# Altium schematic symbol library Capacitors$.SchLib: 601 symbols (part 4 of 4)
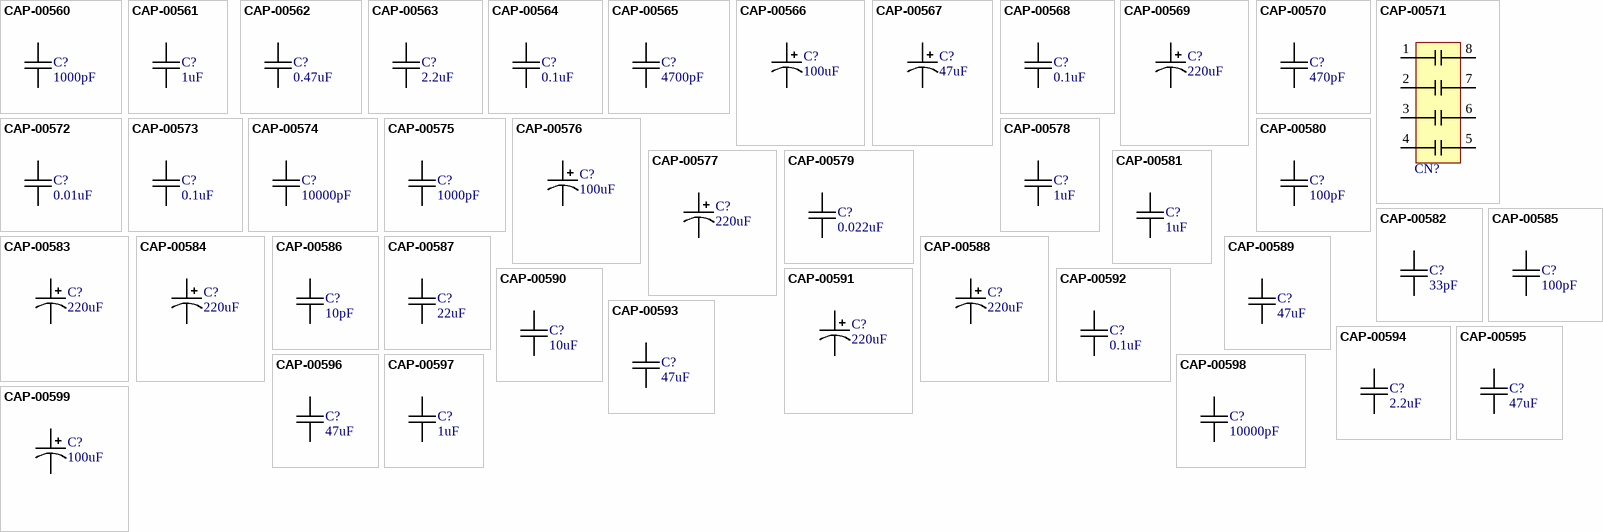
[diagram p18: symbols CAP-00560 to CAP-00599]

## CAP-00573
designator C?, comment 0.1uF
CAP, 0.1uF, ±10%, 50V, X7R, Thru-Hole 0.2in spacing; Part Number: CAP-00573; Manufacturer: KEMET; Manufacturer PN: C322C104K5R5TA7301; Capacitance: 0.1uF; Tolerance: ±10%; Voltage Rating: 50V; Type: X7R; Cost: $0.24
footprint KEMET_C322C104K5R5TA7301
pins: 1, 2

## CAP-00574
designator C?, comment 10000pF
CAP, 10000pF, ±10%, 100V, X7R, Thru-Hole 0.2in spacing; Part Number: CAP-00574; Manufacturer: KEMET; Manufacturer PN: C317C103K1R5TA7301; Capacitance: 10000pF; Tolerance: ±10%; Voltage Rating: 100V; Type: X7R; Cost: $0.24
footprint KEMET_C317C103K1R5TA7301
pins: 1, 2

## CAP-00575
designator C?, comment 1000pF
CAP, 1000pF, ±10%, 100V, X7R, Thru-Hole 0.2in spacing; Part Number: CAP-00575; Manufacturer: KEMET; Manufacturer PN: C317C102K1R5TA7301; Capacitance: 1000pF; Tolerance: ±10%; Voltage Rating: 100V; Type: X7R; Cost: $0.36
footprint KEMET_C317C103K1R5TA7301
pins: 1, 2

## CAP-00576
designator C?, comment 100uF
CAP, 100uF, ±20%, 160V, Al, Radial/Can; Part Number: CAP-00576; Manufacturer: Nichicon; Manufacturer PN: UCS2C101MHD6TN; Capacitance: 100uF; Tolerance: ±20%; Voltage Rating: 160V; Type: Al; Cost: $1.63
footprint CP_RADIAL_D16.0_P7.5_H21.5
pins: 1, 2

## CAP-00577
designator C?, comment 220uF
CAP, 220uF, ±20%, 100V, Al, Radial/Can; Part Number: CAP-00577; Manufacturer: Rubycon; Manufacturer PN: 100ZLJ220M12.5X25; Capacitance: 220uF; Tolerance: ±20%; Voltage Rating: 100V; Type: Al; Cost: $1.21
footprint CP_RADIAL_D12.5_P5.0_H27.0
pins: 1, 2

## CAP-00578
designator C?, comment 1uF
CAP, 1uF, ±10%, 50V, X7R, Thru-Hole 0.2in spacing; Part Number: CAP-00578; Manufacturer: KEMET; Manufacturer PN: C333C105K5R5TA; Capacitance: 1uF; Tolerance: ±10%; Voltage Rating: 50V; Type: X7R; Cost: $0.43
footprint KEMET_C333C105K5R5TA
pins: 1, 2

## CAP-00579
designator C?, comment 0.022uF
CAP, 0.022uF, ±10%, 100V, X7R, Thru-Hole 0.2in spacing; Part Number: CAP-00579; Manufacturer: KEMET; Manufacturer PN: C322C223K1R5TA; Capacitance: 0.022uF; Tolerance: ±10%; Voltage Rating: 100V; Type: X7R; Cost: $0.30
footprint KEMET_C322C104K5R5TA7301
pins: 1, 2

## CAP-00580
designator C?, comment 100pF
CAP, 100pF, ±20%, 200V, X7R, Thru-Hole 0.2in spacing; Part Number: CAP-00580; Manufacturer: KEMET; Manufacturer PN: C317C101M2R5TA; Capacitance: 100pF; Tolerance: ±20%; Voltage Rating: 200V; Type: X7R; Cost: $0.31
footprint KEMET_C317C103K1R5TA7301
pins: 1, 2

## CAP-00581
designator C?, comment 1uF
CAP, 1uF, ±10%, 100V, X7R, Thru-Hole 0.2in spacing; Part Number: CAP-00581; Manufacturer: KEMET; Manufacturer PN: C340C105K1R5TA7303; Capacitance: 1uF; Tolerance: ±10%; Voltage Rating: 100V; Type: X7R; Cost: $0.74
footprint KEMET_C340C105K1R5TA7303
pins: 1, 2

## CAP-00582
designator C?, comment 33pF
CAP, 33pF, ±10%, 200V, C0G, Thru-Hole 0.2in spacing; Part Number: CAP-00582; Manufacturer: KEMET; Manufacturer PN: C317C330K2G5TA7301; Capacitance: 33pF; Tolerance: ±10%; Voltage Rating: 200V; Type: C0G; Cost: $0.32
footprint KEMET_C317C330K2G5TA7301
pins: 1, 2

## CAP-00583
designator C?, comment 220uF
CAP, 220uF, ±10%, 16V, Tantalum, 2917; Part Number: CAP-00583; Manufacturer: KEMET; Manufacturer PN: T491D227K016AT; Capacitance: 220uF; Tolerance: ±10%; Voltage Rating: 16V; Type: Tantalum; Cost: $1.83
footprint CHIP_2917_KEMET_T491D
pins: 1, 2

## CAP-00584
designator C?, comment 220uF
CAP, 220uF, ±10%, 16V, Tantalum, 100mOhm, 2917; Part Number: CAP-00584; Manufacturer: KEMET; Manufacturer PN: T495X227K016ATE100; Capacitance: 220uF; Tolerance: ±10%; Voltage Rating: 16V; Type: Tantalum; Cost: $2.57
footprint chip_2917_KEMET_T495
pins: 1, 2

## CAP-00585
designator C?, comment 100pF
CAP, 100pF, ±5%, 250VAC, C0G, X2/Y3, 1808; Part Number: CAP-00585; Manufacturer: Knowles Novacap; Manufacturer PN: LS1808N101K302NTM; Capacitance: 100pF; Tolerance: ±5%; Voltage Rating: 250VAC; Type: C0G; Cost: $0.78
footprint chip_1808
pins: 1, 2

## CAP-00586
designator C?, comment 10pF
CAP, 10pF, ±1pF, 3kV, C0G, X2/Y3, 1808; Part Number: CAP-00586; Manufacturer: TDK; Manufacturer PN: C4520C0G3F100F085KA; Capacitance: 10pF; Tolerance: ±1pF; Voltage Rating: 3kV; Type: C0G; Cost: $0.67
footprint chip_1808
pins: 1, 2

## CAP-00587
designator C?, comment 22uF
CAP, 22uF, ±10%, 25V, X5R, 1206; Part Number: CAP-00587; Manufacturer: Samsung Electro-Mechanics; Manufacturer PN: CL31A226KAHNNNE; Capacitance: 22uF; Tolerance: ±10%; Voltage Rating: 25V; Type: X5R; Cost: $0.41
footprint chip_1206
pins: 1, 2

## CAP-00588
designator C?, comment 220uF
CAP, 220uF, ±20%, 35V, Al, 7000hrs @ 105°C, SMD; Part Number: CAP-00588; Manufacturer: Nichicon; Manufacturer PN: UCW1V221MNL1GS; Capacitance: 220uF; Tolerance: ±20%; Voltage Rating: 35V; Type: Al; Cost: $0.71
footprint CP_SMD_8x10
pins: 1, 2

## CAP-00589
designator C?, comment 47uF
CAP, 47uF, ±20%, 10V, X5R, 1206; Part Number: CAP-00589; Manufacturer: Samsung Electro-Mechanics; Manufacturer PN: CL31A476MPHNNNE; Capacitance: 47uF; Tolerance: ±20%; Voltage Rating: 10V; Type: X5R; Cost: $0.48
footprint chip_1206
pins: 1, 2

## CAP-00590
designator C?, comment 10uF
CAP, 10uF, ±10%, 75V, X7R, 1210; Part Number: CAP-00590; Manufacturer: TDK; Manufacturer PN: CGA6P1X7R1N106K250AC; Capacitance: 10uF; Tolerance: ±10%; Voltage Rating: 75V; Type: X7R; Cost: $1.07; Distributor Link: https://www.digikey.com/en/products/detail/tdk-corporation/CGA6P1X7R1N106K250AC/10240635
footprint chip_1210
pins: 1, 2

## CAP-00591
designator C?, comment 220uF
CAP, 220uF, ±20%, 63V, Al, 5000hrs @ 105°C; Part Number: CAP-00591; Manufacturer: Nichicon; Manufacturer PN: UPW1J221MPD; Capacitance: 220uF; Tolerance: ±20%; Voltage Rating: 63V; Type: Al; Cost: $0.70; Distributor Link: https://www.digikey.com/en/products/detail/nichicon/UPW1J221MPD/589683
footprint CP_RADIAL_D10.0_P5.0_H20.0
pins: 1, 2

## CAP-00592
designator C?, comment 0.1uF
CAP, 0.1uF, ±10%, 50V, X7R, 0603; Part Number: CAP-00592; Manufacturer: Samsung Electro-Mechanics; Manufacturer PN: CL10B104KB8NNNL; Capacitance: 0.1uF; Tolerance: ±10%; Voltage Rating: 50V; Type: X7R; Cost: $0.10; Distributor Link: https://www.digikey.com/en/products/detail/samsung-electro-mechanics/CL10B104KB8NNNL/3894274
footprint chip_0603
pins: 1, 2

## CAP-00593
designator C?, comment 47uF
CAP, 47uF, ±20%, 10V, X7R, 1210; Part Number: CAP-00593; Manufacturer: Taiyo Yuden; Manufacturer PN: LMK325B7476MM-TR; Capacitance: 47uF; Tolerance: ±20%; Voltage Rating: 10V; Type: X7R; Cost: $1.06; Distributor Link: https://www.digikey.com/en/products/detail/taiyo-yuden/LMK325B7476MM-TR/2573870
footprint chip_1210
pins: 1, 2

## CAP-00594
designator C?, comment 2.2uF
CAP, 2.2uF, ±10%, 100V, X7R, 1206; Part Number: CAP-00594; Manufacturer: Samsung Electro-Mechanics; Manufacturer PN: CL31B225KCHSNNE; Capacitance: 2.2uF; Tolerance: ±10%; Voltage Rating: 100V; Type: X7R; Cost: $0.55; Distributor Link: https://www.digikey.com/en/products/detail/samsung-electro-mechanics/CL31B225KCHSNNE/3888796
footprint chip_1206
pins: 1, 2

## CAP-00595
designator C?, comment 47uF
CAP, 47uF, ±10%, 16V, X5R, 1210; Part Number: CAP-00595; Manufacturer: Samsung Electro-Mechanics; Manufacturer PN: CL32A476KOJNNNE; Capacitance: 47uF; Tolerance: ±10%; Voltage Rating: 16V; Type: X5R; Cost: $0.81; Distributor Link: https://www.digikey.com/en/products/detail/samsung-electro-mechanics/CL32A476KOJNNNE/3889034
footprint chip_1210
pins: 1, 2

## CAP-00596
designator C?, comment 47uF
CAP, 47uF, ±20%, 6.3V, X5R, 0805; Part Number: CAP-00596; Manufacturer: Murata; Manufacturer PN: GRM21BR60J476ME15L; Capacitance: 47uF; Tolerance: ±20%; Voltage Rating: 6.3V; Type: X5R; Cost: $0.46; Distributor Link: https://www.digikey.com/en/products/detail/murata-electronics/GRM21BR60J476ME15L/4905524
footprint chip_0805
pins: 1, 2

## CAP-00597
designator C?, comment 1uF
CAP, 1uF, ±10%, 16V, X7R, 0603, Murata GCM; Part Number: CAP-00597; Manufacturer PN: GCM188R71C105KA64D; Capacitance: 1uF; Tolerance: ±10%; Voltage Rating: 16V; Type: X7R; Manufacturer: Murata; Cost: $0.22; Distributor Link: https://www.digikey.com/en/products/detail/murata-electronics/GCM188R71C105KA64D/1979250
footprint chip_0603
pins: 1, 2

## CAP-00598
designator C?, comment 10000pF
CAP, 10000pF, ±10%, 50V, X7R, 0603, Murata GCJ; Part Number: CAP-00598; Manufacturer PN: GCJ188R71H103KA01D; Capacitance: 10000pF; Tolerance: ±10%; Voltage Rating: 50V; Type: X7R; Manufacturer: Murata; Cost: $0.25; Distributor Link: https://www.digikey.com/en/products/detail/murata-electronics/GCJ188R71H103KA01D/2782218
footprint chip_0603
pins: 1, 2

## CAP-00599
designator C?, comment 100uF
CAP, 100uF, ±20%, 63V, Al, SMD, Nichicon UCD; Part Number: CAP-00599; Manufacturer PN: UCD1J101MNL1GS; Capacitance: 100uF; Tolerance: ±20%; Voltage Rating: 63V; Type: Al; Manufacturer: Nichicon; Cost: $0.87; Distributor Link: https://www.digikey.com/en/products/detail/nichicon/UCD1J101MNL1GS/2549693
footprint CAP_SMD_10x10_0
pins: 1, 2

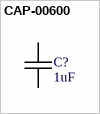
[diagram p15: symbol CAP-00600]

## CAP-00600
designator C?, comment 1uF
CAP, 1uF, ±10%, 400V, Film, 22.5mm Lead-Spacing; Part Number: CAP-00600; Manufacturer: Panasonic; Manufacturer PN: ECQ-E4105KF; Capacitance: 1uF; Tolerance: ±10%; Voltage Rating: 400V; Type: Film; Cost: $0.94; Distributor Link: https://www.digikey.com/en/products/detail/panasonic-electronic-components/ECQ-E4105KF/56603
footprint PANASONIC_ECQ-E4105KF
pins: 1, 2